# Altium footprint library LPSON_CON.PcbLib: 86 footprints (part 2 of 6)
Each footprint in its own frame and in the unit in brackets; x right, y up, seen from the top. Pads: shape width x height; smd on the part's side, far side on the other; paste and mask are expansions set on the pad; w line width, h text height; cw(c..) or ccw(c..) is an arc to the next point about the centre after c.
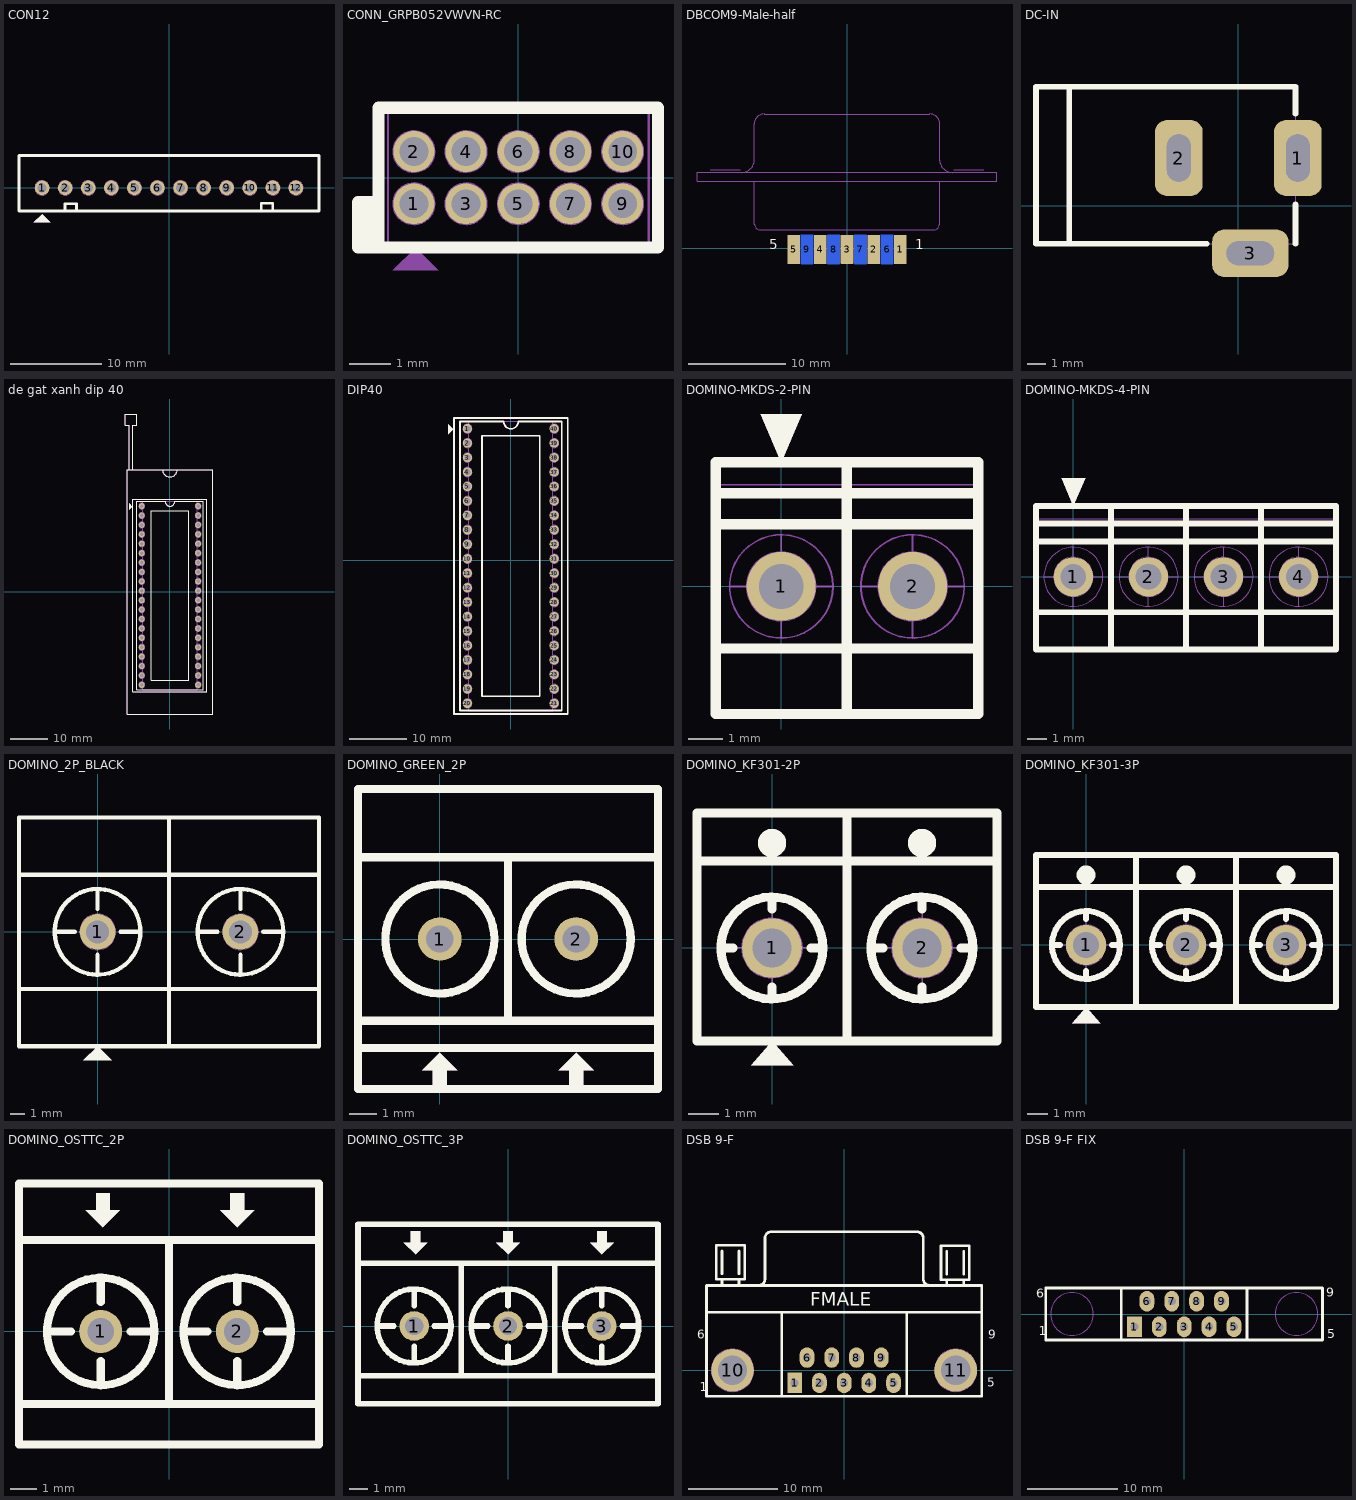
[diagram p1: the footprints below, top view; thin cyan lines are the x and y axes]

## CON12 [mm] "CON12"
height 5.08
pads (12):
  round 1.6 hole 1 mask+0.1: 1(-13.97,0) 2(-11.43,0) 3(-8.89,0) 4(-6.35,0) 5(-3.81,0) 6(-1.27,0) 7(1.27,0) 8(3.81,0) 9(6.35,0) 10(8.89,0) 11(11.43,0) 12(13.97,0)
Top Overlay:
  region: -14.872,-3.797 -13.068,-3.797 -13.957,-2.908 -13.957,-2.883
  lines w0.3: -11.455,-2.515 -11.455,-1.753 -10.185,-1.753 -10.185,-2.515 ; 10.16,-2.464 10.16,-1.702 11.43,-1.702 11.43,-2.464 ; -16.51,-2.54 -16.51,3.556 16.51,3.556 16.51,0 16.51,-2.54 -16.51,-2.54
Mechanical 1:
  circle w0.05: c-13.97,0 r0.8
  circle w0.05: c-11.43,0 r0.8
  circle w0.05: c-8.89,0 r0.8
  circle w0.05: c-6.35,0 r0.8
  circle w0.05: c-3.81,0 r0.8
  circle w0.05: c-1.27,0 r0.8
  circle w0.05: c1.27,0 r0.8
  circle w0.05: c3.81,0 r0.8
  circle w0.05: c6.35,0 r0.8
  circle w0.05: c8.89,0 r0.8
  circle w0.05: c11.43,0 r0.8
  circle w0.05: c13.97,0 r0.8
  region: -14.872,-3.797 -13.068,-3.797 -13.957,-2.908 -13.957,-2.883
  lines w0.05: -11.455,-2.515 -11.455,-1.753 -10.185,-1.753 -10.185,-2.515 ; 10.16,-2.464 10.16,-1.702 11.43,-1.702 11.43,-2.464 ; -16.51,-2.54 -16.51,3.556 16.51,3.556 16.51,0 16.51,-2.54 -16.51,-2.54
  text "1" at -14.1,-0.5 h1
  text "12" at 13.2,-0.5 h1
  text "CN?" at 0.05,0.05 h0.8
3D body "User Library-PW10_12.step": height 7, standoff -3.3, extent -16.3,-2.286 16.3,3.414

## CONN_GRPB052VWVN-RC [mm] "Connector Header Through Hole 10 position 0.050\" (1.27mm)"
pads (10):
  round 1 hole 0.7 mask+0.08: 1(-2.54,-0.635) 2(-2.54,0.635) 3(-1.27,-0.635) 4(-1.27,0.635) 5(0,-0.635) 6(0,0.635) 7(1.27,-0.635) 8(1.27,0.635) 9(2.54,-0.635) 10(2.54,0.635)
Top Overlay:
  lines w0.3: -3.65,-1.7 -3.65,-0.6 ; -3.4,-0.6 -3.9,-0.6 -3.9,-1.7 -3.4,-1.7 ; -3.4,-1.7 3.4,-1.7 3.4,1.7 -3.4,1.7 -3.4,-1.7
Mechanical 1:
  circle w0.05: c-2.54,-0.635 r0.5
  circle w0.05: c-1.27,-0.635 r0.5
  circle w0.05: c0,-0.635 r0.5
  circle w0.05: c1.27,-0.635 r0.5
  circle w0.05: c2.54,-0.635 r0.5
  circle w0.05: c2.54,0.635 r0.5
  circle w0.05: c1.27,0.635 r0.5
  circle w0.05: c0,0.635 r0.5
  circle w0.05: c-1.27,0.635 r0.5
  circle w0.05: c-2.54,0.635 r0.5
  region: -2.5,-1.7 -3.05,-2.25 -1.95,-2.25
  lines w0.05: -3.175,-1.7 3.175,-1.7 3.175,1.7 -3.175,1.7 -3.175,-1.7
  text "9" at 2.4,-0.9 h0.5
  text "10" at 2.15,0.4 h0.5
  text "2" at -2.7,0.4 h0.5
  text "1" at -2.6,-0.9 h0.5
3D body: height 4, standoff -2.3, extent -2.739,-0.834 -2.34,-0.435
3D body: height 4, standoff -2.3, extent 2.341,0.436 2.739,0.834
3D body: height 4, standoff -2.3, extent 1.071,0.436 1.469,0.834
3D body: height 4, standoff -2.3, extent -0.199,0.436 0.199,0.834
3D body: height 4, standoff -2.3, extent 2.341,-0.834 2.739,-0.436
3D body: height 4, standoff -2.3, extent 1.071,-0.834 1.469,-0.436
3D body: height 4, standoff -2.3, extent -0.199,-0.834 0.199,-0.436
3D body: height 4, standoff -2.3, extent -1.469,0.436 -1.071,0.834
3D body: height 4, standoff -2.3, extent -2.739,0.436 -2.341,0.834
3D body: height 4, standoff -2.3, extent -1.469,-0.834 -1.071,-0.436
3D body: height 1, standoff 0, extent -3.174,-1.699 3.174,1.699

## DBCOM9-Male-half [mm]
pads (9):
  rrect10% 1.3x3 smd: 1(5.48,-0.1) 2(2.74,-0.1) 3(0,-0.1) 4(-2.74,-0.1) 5(-5.48,-0.1)
  rrect10% 1.3x3 smd far side: 6(4.11,-0.1) 7(1.37,-0.1) 8(-1.37,-0.1) 9(-4.11,-0.1)
Top Overlay:
  text "1" at 7,-0.1 h1
  text "5" at -8,-0.1 h1
Bottom Overlay:
  text "9" at -8,-0.1 h1
  text "6" at 6.833,-0.1 h1
Mechanical 2:
  lines w0.05: -15.395,6.9 -15.395,7.8 ; 15.4,7.7 15.4,6.9 ; -15.4,6.9 -15.4,7.8 ; -15.4,6.9 15.4,6.9 ; -15.4,6.9 15.4,6.9 ; -15.4,7.8 15.4,7.8 ; -15.4,7.8 15.4,7.8 ; -12.5,8.1 -14.05,8.1 -12.5,8.1 ; -12.5,8.1 -10.95,8.1 -12.5,8.1 ; -9.51,9 cw(c-10.855,9.145) -11,7.8 ccw(c-10.855,9.145) -9.51,9 ; -9.51,9 -9.51,12.79 ; -9.51,9 -9.51,12.79 ; -9.51,12.79 cw(c-8.5,12.79) -8.5,13.8 ; -9.51,12.79 cw(c-8.5,12.79) -8.5,13.8 ; -8.9,1.9 cw(c-8.9,2.5) -9.5,2.5 ccw(c-8.9,2.5) -8.9,1.9 ; -8.9,1.9 8.9,1.9 ; -8.9,1.9 8.9,1.9 ; -8.5,13.8 8.5,13.8 ; -8.5,13.8 8.5,13.8 ; 8.5,13.8 cw(c8.5,12.79) 9.51,12.79 ; 8.5,13.8 cw(c8.5,12.79) 9.51,12.79 ; 8.9,1.9 ccw(c8.9,2.5) 9.5,2.5 cw(c8.9,2.5) 8.9,1.9 ; 9.51,9 ccw(c10.855,9.145) 11,7.8 cw(c10.855,9.145) 9.51,9 ; 9.51,9 9.51,12.79 ; 9.51,9 9.51,12.79 ; 12.5,8.1 14.05,8.1 12.5,8.1 ; 12.5,8.1 10.95,8.1 12.5,8.1 ; 15.4,6.9 15.4,7.8 ; -9.5,2.5 -9.5,6.9 -9.5,2.5 ; 9.5,2.5 9.5,6.9 9.5,2.5
  text "5" at -8,-0.1 h1
  text "1" at 7,-0.1 h1
3D body "43770.stp": height 5.45, standoff -7.05, extent -15.405,-0.8 15.405,13.8

## DC-IN [mil] "Jac DC input"
height 200
pads (3):
  rrect50% 100x160 hole 50 slot 100 at 90 deg: 1(125,100) 2(-125,100)
  rrect50% 160x100 hole 50 slot 100 at 0 deg: 3(25,-100)
Top Overlay:
  lines w11.81: -355,-80 -355,250 ; -66.54,-80 -425,-80 -425,250 120,250 120,192.91 ; 120,-80 120,2.5
Mechanical 1:
  lines w1.97: -355,-80 -355,250 ; -425,-80 120,-80 120,250 -425,250 -425,-80
3D body "SW3dPS-dc range - dc connector[4840.2201].STEP": height 433.67, standoff -137.2, extent -410.35,-105.12 134,269.12

## de gat xanh dip 40 [mm] "de gat xanh dip 40"
height 15
pads (40):
  round 1.6 hole 1: 1(-7.62,23.13) 2(-7.62,20.59) 3(-7.62,18.05) 4(-7.62,15.51) 5(-7.62,12.97) 6(-7.62,10.43) 7(-7.62,7.89) 8(-7.62,5.35) 9(-7.62,2.81) 10(-7.62,0.27) 11(-7.62,-2.27) 12(-7.62,-4.81) 13(-7.62,-7.35) 14(-7.62,-9.89) 15(-7.62,-12.43) 16(-7.62,-14.97) 17(-7.62,-17.51) 18(-7.62,-20.05) 19(-7.62,-22.59) 20(-7.62,-25.13) 21(7.62,-25.13) 22(7.62,-22.59) 23(7.62,-20.05) 24(7.62,-17.51) 25(7.62,-14.97) 26(7.62,-12.43) 27(7.62,-9.89) 28(7.62,-7.35) 29(7.62,-4.81) 30(7.62,-2.27) 31(7.62,0.27) 32(7.62,2.81) 33(7.62,5.35) 34(7.62,7.89) 35(7.62,10.43) 36(7.62,12.97) 37(7.62,15.51) 38(7.62,18.05) 39(7.62,20.59) 40(7.62,23.13)
Top Overlay:
  region: -10.111,23 -11,23.889 -11,22.111
  lines w0.3: -11,33 -11,45 -12,45 -12,48 -9,48 -9,45 -10,45 -10,33 ; -8.95,-26.41 -8.95,24.39 ; -8.89,-26.4 8.96,-26.4 8.96,24.4 1.321,24.4 ; -8.89,24.4 -1.245,24.4 ; -2,33 ccw(c0,33) 2,33 ; -1.243,24.41 ccw(c0.026,24.367) 1.295,24.4 ; -11.5,33 11.5,33 ; -11.5,33 -11.5,-33 11.5,-33 11.5,33 ; -11.5,33 11.5,33 ; -10,-27 -10,25 10,25 10,-27 -10,-27 ; -5.08,-23.86 -5.08,21.86 5.08,21.86 5.08,-23.86 -5.08,-23.86
Mechanical 1:
  circle w0.05: c-7.62,-22.59 r0.8
  circle w0.05: c-7.62,-25.13 r0.8
  circle w0.05: c7.62,-22.59 r0.8
  circle w0.05: c7.62,-25.13 r0.8
  circle w0.05: c-7.62,-17.51 r0.8
  circle w0.05: c-7.62,-20.05 r0.8
  circle w0.05: c7.62,-17.51 r0.8
  circle w0.05: c7.62,-20.05 r0.8
  circle w0.05: c-7.62,-12.43 r0.8
  circle w0.05: c-7.62,-14.97 r0.8
  circle w0.05: c7.62,-12.43 r0.8
  circle w0.05: c7.62,-14.97 r0.8
  circle w0.05: c-7.62,-7.35 r0.8
  circle w0.05: c-7.62,-9.89 r0.8
  circle w0.05: c7.62,-7.35 r0.8
  circle w0.05: c7.62,-9.89 r0.8
  circle w0.05: c-7.62,-2.27 r0.8
  circle w0.05: c-7.62,-4.81 r0.8
  circle w0.05: c7.62,-2.27 r0.8
  circle w0.05: c7.62,-4.81 r0.8
  circle w0.05: c-7.62,2.81 r0.8
  circle w0.05: c-7.62,0.27 r0.8
  circle w0.05: c7.62,2.81 r0.8
  circle w0.05: c7.62,0.27 r0.8
  circle w0.05: c-7.62,7.89 r0.8
  circle w0.05: c-7.62,5.35 r0.8
  circle w0.05: c7.62,7.89 r0.8
  circle w0.05: c7.62,5.35 r0.8
  circle w0.05: c-7.62,12.97 r0.8
  circle w0.05: c-7.62,10.43 r0.8
  circle w0.05: c7.62,12.97 r0.8
  circle w0.05: c7.62,10.43 r0.8
  circle w0.05: c-7.62,18.05 r0.8
  circle w0.05: c-7.62,15.51 r0.8
  circle w0.05: c7.62,18.05 r0.8
  circle w0.05: c7.62,15.51 r0.8
  circle w0.05: c7.62,20.59 r0.8
  circle w0.05: c7.62,23.13 r0.8
  circle w0.05: c-7.62,20.59 r0.8
  circle w0.05: c-7.62,23.13 r0.8
  lines w0.05: -11,33 -11,45 -12,45 -12,48 -9,48 -9,45 -10,45 -10,33 ; -2,33 ccw(c0,33) 2,33 ; -1.3,24.4 ccw(c0,24.4) 1.3,24.4 ; -11.5,-33 -11.5,33 11.5,33 11.5,-33 -11.5,-33 ; -10,-27 -10,25 10,25 10,-27 -10,-27 ; -7.366,-26.4 7.366,-26.4 7.366,24.4 -7.366,24.4 -7.366,-26.4
  text "40" at 4.8,22.5 h1
  text "21" at 5.3,-25.5 h1
  text "20" at -6.6,-25.5 h1
  text "1" at -6.4,22.5 h1
3D body "User Library-DIP40 active.step": height 13.2, standoff -3.2, extent -13.174,-31.9 11.174,47.3
3D body "DIP40.STEP": height 18.7, standoff 10.42, extent -7.743,-27.237 7.747,25.213

## DIP40 [mm] "DIP40"
height 5
pads (40):
  round 1.6 hole 1: 1(-7.62,23.13) 2(-7.62,20.59) 3(-7.62,18.05) 4(-7.62,15.51) 5(-7.62,12.97) 6(-7.62,10.43) 7(-7.62,7.89) 8(-7.62,5.35) 9(-7.62,2.81) 10(-7.62,0.27) 11(-7.62,-2.27) 12(-7.62,-4.81) 13(-7.62,-7.35) 14(-7.62,-9.89) 15(-7.62,-12.43) 16(-7.62,-14.97) 17(-7.62,-17.51) 18(-7.62,-20.05) 19(-7.62,-22.59) 20(-7.62,-25.13) 21(7.62,-25.13) 22(7.62,-22.59) 23(7.62,-20.05) 24(7.62,-17.51) 25(7.62,-14.97) 26(7.62,-12.43) 27(7.62,-9.89) 28(7.62,-7.35) 29(7.62,-4.81) 30(7.62,-2.27) 31(7.62,0.27) 32(7.62,2.81) 33(7.62,5.35) 34(7.62,7.89) 35(7.62,10.43) 36(7.62,12.97) 37(7.62,15.51) 38(7.62,18.05) 39(7.62,20.59) 40(7.62,23.13)
Top Overlay:
  region: -10.111,23 -11,23.889 -11,22.111
  lines w0.3: -8.95,-26.41 -8.95,24.39 ; -8.89,-26.4 8.96,-26.4 8.96,24.4 1.321,24.4 ; -8.89,24.4 -1.245,24.4 ; -1.243,24.41 ccw(c0.026,24.367) 1.295,24.4 ; -10,-27 10,-27 10,25 -10,25 -10,-27 ; -5.08,-23.86 5.08,-23.86 5.08,21.86 -5.08,21.86 -5.08,-23.86
Mechanical 1:
  circle w0.05: c-7.62,23.13 r0.8
  circle w0.05: c-7.62,20.59 r0.8
  circle w0.05: c7.62,23.13 r0.8
  circle w0.05: c7.62,20.59 r0.8
  circle w0.05: c7.62,15.51 r0.8
  circle w0.05: c7.62,18.05 r0.8
  circle w0.05: c-7.62,15.51 r0.8
  circle w0.05: c-7.62,18.05 r0.8
  circle w0.05: c7.62,10.43 r0.8
  circle w0.05: c7.62,12.97 r0.8
  circle w0.05: c-7.62,10.43 r0.8
  circle w0.05: c-7.62,12.97 r0.8
  circle w0.05: c7.62,5.35 r0.8
  circle w0.05: c7.62,7.89 r0.8
  circle w0.05: c-7.62,5.35 r0.8
  circle w0.05: c-7.62,7.89 r0.8
  circle w0.05: c7.62,0.27 r0.8
  circle w0.05: c7.62,2.81 r0.8
  circle w0.05: c-7.62,0.27 r0.8
  circle w0.05: c-7.62,2.81 r0.8
  circle w0.05: c7.62,-4.81 r0.8
  circle w0.05: c7.62,-2.27 r0.8
  circle w0.05: c-7.62,-4.81 r0.8
  circle w0.05: c-7.62,-2.27 r0.8
  circle w0.05: c7.62,-9.89 r0.8
  circle w0.05: c7.62,-7.35 r0.8
  circle w0.05: c-7.62,-9.89 r0.8
  circle w0.05: c-7.62,-7.35 r0.8
  circle w0.05: c7.62,-14.97 r0.8
  circle w0.05: c7.62,-12.43 r0.8
  circle w0.05: c-7.62,-14.97 r0.8
  circle w0.05: c-7.62,-12.43 r0.8
  circle w0.05: c7.62,-20.05 r0.8
  circle w0.05: c7.62,-17.51 r0.8
  circle w0.05: c-7.62,-20.05 r0.8
  circle w0.05: c-7.62,-17.51 r0.8
  circle w0.05: c7.62,-25.13 r0.8
  circle w0.05: c7.62,-22.59 r0.8
  circle w0.05: c-7.62,-25.13 r0.8
  circle w0.05: c-7.62,-22.59 r0.8
  lines w0.05: -1.3,24.4 ccw(c0,24.4) 1.3,24.4 ; -10,-27 10,-27 10,25 -10,25 -10,-27 ; -7.366,-26.4 -7.366,24.4 7.366,24.4 7.366,-26.4 -7.366,-26.4
  text "1" at -6.4,22.5 h1
  text "20" at -6.6,-25.5 h1
  text "21" at 5.3,-25.5 h1
  text "40" at 4.8,22.5 h1
3D body "DIP40.STEP": height 5.7, standoff -2.58, extent -7.743,-27.237 7.747,25.213

## DOMINO-MKDS-2-PIN [mm] "DOMINO 2 PIN, PIN TO PIN 3.81MM"
height 8.5
pads (2):
  round 2 hole 1.3 mask+0.1: 1(0,0) 2(3.81,0)
Top Overlay:
  region: 0,3.6 0.6,5 -0.6,5
  lines w0.3: -1.9,-1.8 5.715,-1.8 ; -1.9,1.8 5.715,1.8 ; -1.9,2.7 5.715,2.7 ; 1.905,-3.7 1.905,3.6 ; -1.9,-3.7 5.715,-3.7 5.715,3.6 -1.9,3.6 -1.9,-3.7
Mechanical 1:
  circle w0.05: c0,0 r1
  circle w0.05: c3.81,0 r1
  circle w0.05: c0,0 r1.5
  circle w0.05: c3.81,0 r1.5
  region: 0,3.6 0.6,5 -0.6,5
  lines w0.05: -1.9,-1.8 5.715,-1.8 ; -1.9,1.8 5.715,1.8 ; -1.9,2.95 5.715,2.95 ; -1.5,0 -1,0 ; 0,-1.5 0,-1 ; 0,1 0,1.5 ; 1,0 1.5,0 ; 1.905,-3.7 1.905,3.6 ; 2.31,0 2.81,0 ; 3.81,-1.5 3.81,-1 ; 3.81,1 3.81,1.5 ; 4.81,0 5.31,0 ; -1.9,-3.7 5.715,-3.7 5.715,3.6 -1.9,3.6 -1.9,-3.7
  text "CN?" at 1.905,-0.05 h1
  text "1" at -0.085,-0.4 h1
  text "2" at 3.7,-0.4 h1
3D body "14005.stp": height 8.5, standoff -3.5, extent -1.905,-3.7 5.715,3.6

## DOMINO-MKDS-4-PIN [mm] "DOMINO 4 PIN, PIN TO PIN 3.81MM"
height 8.5
pads (4):
  round 2 hole 1.3 mask+0.1: 1(0,0) 2(3.81,0) 3(7.62,0) 4(11.43,0)
Top Overlay:
  region: 0,3.6 0.6,5 -0.6,5
  lines w0.3: -1.9,-1.8 13.33,-1.8 ; -1.9,1.8 13.33,1.8 ; -1.9,2.7 13.33,2.7 ; 1.905,-3.7 1.905,3.6 ; 5.715,-3.7 5.715,3.6 ; 9.525,-3.7 9.525,3.6 ; -1.9,-3.7 -1.9,3.6 13.33,3.6 13.33,-3.7 -1.9,-3.7
Mechanical 1:
  circle w0.05: c11.43,0 r1.5
  circle w0.05: c7.62,0 r1.5
  circle w0.05: c3.81,0 r1.5
  circle w0.05: c0,0 r1.5
  circle w0.05: c11.43,0 r1
  circle w0.05: c7.62,0 r1
  circle w0.05: c3.81,0 r1
  circle w0.05: c0,0 r1
  region: 0,3.6 0.6,5 -0.6,5
  lines w0.05: -1.9,-1.8 13.33,-1.8 ; -1.9,1.8 13.33,1.8 ; -1.9,2.95 13.33,2.95 ; -1.5,0 -1,0 ; 0,-1.5 0,-1 ; 0,1 0,1.5 ; 1,0 1.5,0 ; 1.905,-3.7 1.905,3.6 ; 2.31,0 2.81,0 ; 3.81,-1.5 3.81,-1 ; 3.81,1 3.81,1.5 ; 4.81,0 5.31,0 ; 5.715,-3.7 5.715,3.6 ; 6.12,0 6.62,0 ; 7.62,-1.5 7.62,-1 ; 7.62,1 7.62,1.5 ; 8.62,0 9.12,0 ; 9.525,-3.7 9.525,3.6 ; 9.93,0 10.43,0 ; 11.43,-1.5 11.43,-1 ; 11.43,1 11.43,1.5 ; 12.43,0 12.93,0 ; -1.9,-3.7 -1.9,3.6 13.33,3.6 13.33,-3.7 -1.9,-3.7
  text "1" at -0.085,-0.4 h1
  text "4" at 11.015,-0.5 h1
  text "CN?" at 5.715,0 h1
3D body "14007.stp": height 8.5, standoff -3.5, extent -1.92,-3.7 13.32,3.6

## DOMINO_2P_BLACK [mm] "25A PIN TO PIN 10mm, 16mmx21mm"
height 18
pads (2):
  round 2.5 hole 1.6 mask+0.1: 1(0,0) 2(10,0)
Top Overlay:
  circle w0.3: c10,0 r3
  circle w0.3: c0,0 r3
  region: 0,-8 -1,-9 1,-9
  lines w0.3: -5.5,-4 15.5,-4 ; -5.5,4 15.5,4 ; -3,0 -1.6,0 ; 0,-3 0,-1.6 ; 0,1.6 0,3 ; 1.6,0 3,0 ; 5,-8 5,8 ; 7,0 8.4,0 ; 10,-3 10,-1.6 ; 10,1.6 10,3 ; 11.6,0 13,0 ; -5.5,-8 15.5,-8 15.5,8 -5.5,8 -5.5,-8
Mechanical 1:
  circle w0.05: c0,0 r1.25
  circle w0.05: c10,0 r1.25
  circle w0.05: c10,0 r3
  circle w0.05: c0,0 r3
  lines w0.05: -3,0 -1.6,0 ; 0,-3 0,-1.6 ; 0,1.6 0,3 ; 1.6,0 3,0 ; 5,-8 5,8 ; 7,0 8.4,0 ; 10,-3 10,-1.6 ; 10,1.6 10,3 ; 11.6,0 13,0 ; -5.5,-8 15.5,-8 15.5,8 -5.5,8 -5.5,-8
  text "1" at -0.18,-0.43 h1
  text "2" at 9.72,-0.48 h1

## DOMINO_GREEN_2P [mm] "10A PIN TO PIN 5mm 11mmx11mm"
pads (2):
  round 1.6 hole 1 mask+0.1: 1(0,0) 2(5,0)
Top Overlay:
  circle w0.3: c5,0 r2
  circle w0.3: c0,0 r2
  region: 5,-4.171 4.365,-4.806 4.746,-4.806 4.746,-5.441 5.254,-5.441 5.254,-4.806 5.635,-4.806
  region: 0,-4.171 -0.635,-4.806 -0.254,-4.806 -0.254,-5.441 0.254,-5.441 0.254,-4.806 0.635,-4.806
  lines w0.3: -3,-4 8,-4 ; -3,-3 8,-3 ; -3,3 8,3 ; 2.5,-3 2.5,3 ; -3,-5.5 -3,5.5 8,5.5 8,-5.5 -3,-5.5
Mechanical 1:
  circle w0.05: c5,0 r2
  circle w0.05: c0,0 r2
  region: 5,-4.171 4.365,-4.806 4.746,-4.806 4.746,-5.441 5.254,-5.441 5.254,-4.806 5.635,-4.806
  region: 0,-4.171 -0.635,-4.806 -0.254,-4.806 -0.254,-5.441 0.254,-5.441 0.254,-4.806 0.635,-4.806
  lines w0.05: -3,-4 8,-4 ; -3,-3 8,-3 ; -3,3 8,3 ; 2.5,-3 2.5,3 ; -3,-5.5 -3,5.5 8,5.5 8,-5.5 -3,-5.5
  text "2" at 4.6,-0.6 h1.2
  text "1" at -0.2,-0.6 h1.2
3D body "STB01.step": height 12.5, standoff -4.4, extent -3.14,-4.047 2.54,4.953
3D body "STB01.step": height 12.5, standoff -4.4, extent 1.94,-4.047 7.62,4.953

## DOMINO_KF301-2P [mm] "16A 300V PIN TO PIN 5mm, 15mmx7.6mm"
height 10
pads (2):
  round 2 hole 1.3 mask+0.1: 1(0,0) 2(5,0)
Top Overlay:
  circle w0.3: c5,0 r1.7
  circle w0.3: c0,0 r1.7
  circle w0.5: c0,3.5 r0.224
  circle w0.5: c5,3.5 r0.224
  region: 0,-3.1 -0.7,-3.9 0.7,-3.9
  lines w0.3: -2.5,2.9 7.5,2.9 ; -1.7,0 -1.3,0 ; 0,-1.7 0,-1.3 ; 0,1.3 0,1.7 ; 1.3,0 1.7,0 ; 2.5,-3.1 2.5,4.5 ; 3.3,0 3.7,0 ; 5,-1.7 5,-1.3 ; 5,1.3 5,1.7 ; 6.3,0 6.7,0 ; -2.5,-3.1 7.5,-3.1 7.5,4.5 -2.5,4.5 -2.5,-3.1
Mechanical 1:
  circle w0.05: c5,0 r1.7
  circle w0.05: c5,0 r1
  circle w0.05: c0,0 r1
  circle w0.05: c5,3.5 r0.224
  circle w0.05: c0,0 r1.7
  circle w0.05: c0,3.5 r0.224
  region: 0,-3.1 -0.7,-3.9 0.7,-3.9
  lines w0.05: -2.5,2.9 7.5,2.9 ; -1.7,0 -1,0 ; 0,-1.7 0,-1 ; 0,1 0,1.7 ; 1,0 1.7,0 ; 2.5,-3.1 2.5,4.5 ; 3.3,0 4,0 ; 5,-1.7 5,-1 ; 5,1 5,1.7 ; 6,0 6.7,0 ; -2.5,-3.1 7.5,-3.1 7.5,4.5 -2.5,4.5 -2.5,-3.1
  text "2" at 4.63,-0.54 h1.2
  text "1" at -0.19,-0.53 h1.2

## DOMINO_KF301-3P [mm] "16A 300V PIN TO PIN 5mm, 15mmx7.6mm"
height 10
pads (3):
  round 2 hole 1.3 mask+0.1: 1(0,0) 2(5,0) 3(10,0)
Top Overlay:
  circle w0.3: c10,0 r1.7
  circle w0.3: c5,0 r1.7
  circle w0.3: c0,0 r1.7
  circle w0.5: c0,3.5 r0.224
  circle w0.5: c5,3.5 r0.224
  circle w0.5: c10,3.5 r0.224
  region: 0,-3.1 -0.7,-3.9 0.7,-3.9
  lines w0.3: -2.5,2.9 12.5,2.9 ; -1.7,0 -1.3,0 ; 0,-1.7 0,-1.3 ; 0,1.3 0,1.7 ; 1.3,0 1.7,0 ; 2.5,-3.1 2.5,4.5 ; 3.3,0 3.7,0 ; 5,-1.7 5,-1.3 ; 5,1.3 5,1.7 ; 6.3,0 6.7,0 ; 7.5,-3.1 7.5,4.5 ; 8.3,0 8.7,0 ; 10,-1.7 10,-1.3 ; 10,1.3 10,1.7 ; 11.3,0 11.7,0 ; -2.5,-3.1 12.5,-3.1 12.5,4.5 -2.5,4.5 -2.5,-3.1
Mechanical 1:
  circle w0.05: c10,0 r1.7
  circle w0.05: c10,0 r1
  circle w0.05: c5,0 r1.7
  circle w0.05: c5,0 r1
  circle w0.05: c0,0 r1
  circle w0.05: c5,3.5 r0.224
  circle w0.05: c0,0 r1.7
  circle w0.05: c0,3.5 r0.224
  circle w0.05: c10,3.5 r0.224
  region: 0,-3.1 -0.7,-3.9 0.7,-3.9
  lines w0.05: -2.5,2.9 12.5,2.9 ; -1.7,0 -1,0 ; 0,-1.7 0,-1 ; 0,1 0,1.7 ; 1,0 1.7,0 ; 2.5,-3.1 2.5,4.5 ; 3.3,0 4,0 ; 5,-1.7 5,-1 ; 5,1 5,1.7 ; 6,0 6.7,0 ; 7.5,-3.1 7.5,4.5 ; 8.3,0 9,0 ; 10,-1.7 10,-1 ; 10,1 10,1.7 ; 11,0 11.7,0 ; -2.5,-3.1 12.5,-3.1 12.5,4.5 -2.5,4.5 -2.5,-3.1
  text "3" at 9.61,-0.58 h1.2
  text "2" at 4.63,-0.54 h1.2
  text "1" at -0.19,-0.53 h1.2

## DOMINO_OSTTC_2P [mm] "15A PIN TO PIN 5.08MM ED2609-ND"
pads (2):
  round 1.6 hole 1 mask+0.1: 1(-2.54,0) 2(2.54,0)
Top Overlay:
  circle w0.3: c-2.54,0 r2
  circle w0.3: c2.54,0 r2
  region: 2.54,3.871 1.905,4.506 2.286,4.506 2.286,5.141 2.794,5.141 2.794,4.506 3.175,4.506
  region: -2.46,3.871 -3.095,4.506 -2.714,4.506 -2.714,5.141 -2.206,5.141 -2.206,4.506 -1.825,4.506
  lines w0.3: -5.58,-4.2 -5.58,5.5 ; -5.5,-4.2 5.5,-4.2 ; -5.5,-2.7 5.5,-2.7 ; -5.5,3.4 5.5,3.4 ; -5.5,5.5 5.5,5.5 ; -4.54,0 -3.64,0 ; -2.54,-2 -2.54,-1.1 ; -2.54,1.1 -2.54,2 -2.5,2 ; -1.44,0 -0.54,0 ; 0,-2.7 0,3.4 ; 0.54,0 1.44,0 ; 2.54,-2 2.54,-1.1 ; 2.54,1.1 2.54,2 ; 3.64,0 4.54,0 ; 5.58,-4.2 5.58,5.5
Mechanical 2:
  circle w0.05: c2.54,0 r2
  circle w0.05: c-2.54,0 r2
  region: 2.54,3.871 1.905,4.506 2.286,4.506 2.286,5.141 2.794,5.141 2.794,4.506 3.175,4.506
  region: -2.46,3.871 -3.095,4.506 -2.714,4.506 -2.714,5.141 -2.206,5.141 -2.206,4.506 -1.825,4.506
  lines w0.05: -5.5,-2.7 5.5,-2.7 ; -5.5,3.4 5.5,3.4 ; 0,-2.7 0,3.4 ; -5.5,-4.2 -5.5,5.5 5.5,5.5 5.5,-4.2 -5.5,-4.2
  text "2" at 2.14,-0.6 h1.2
  text "1" at -2.74,-0.6 h1.2
3D body "STB01.step": height 12.5, standoff -4.4, extent -0.34,-3.753 5.34,5.247
3D body "STB01.step": height 12.5, standoff -4.4, extent -5.42,-3.753 0.26,5.247

## DOMINO_OSTTC_3P [mm] "15A PIN TO PIN 5.08MM ED2610-ND"
pads (3):
  round 1.6 hole 1 mask+0.1: 1(-5.08,0) 2(0,0) 3(5.08,0)
Top Overlay:
  circle w0.3: c-5.08,0 r2
  circle w0.3: c0,0 r2
  circle w0.3: c5.08,0 r2
  region: 0,3.871 -0.635,4.506 -0.254,4.506 -0.254,5.141 0.254,5.141 0.254,4.506 0.635,4.506
  region: -5,3.871 -5.635,4.506 -5.254,4.506 -5.254,5.141 -4.746,5.141 -4.746,4.506 -4.365,4.506
  region: 5.08,3.871 4.445,4.506 4.826,4.506 4.826,5.141 5.334,5.141 5.334,4.506 5.715,4.506
  lines w0.3: -8.12,-4.2 -8.12,5.5 ; -8.04,-4.2 8.12,-4.2 8.12,5.5 ; -8.04,-2.7 8.092,-2.7 ; -8.04,3.4 8.117,3.4 ; -8.04,5.5 8.04,5.5 ; -7.08,0 -6.18,0 ; -5.08,-2 -5.08,-1.1 ; -5.08,1.1 -5.08,2 -5.04,2 ; -3.98,0 -3.08,0 ; -2.54,-2.7 -2.54,3.4 ; -2,0 -1.1,0 ; 0,-2 0,-1.1 ; 0,1.1 0,2 ; 1.1,0 2,0 ; 2.54,-2.7 2.54,3.4 ; 3.08,0 3.98,0 ; 5.08,-2 5.08,-1.1 ; 5.08,1.1 5.08,2 ; 6.18,0 7.08,0
Mechanical 2:
  circle w0.05: c0,0 r2
  circle w0.05: c-5.08,0 r2
  circle w0.05: c5.08,0 r2
  region: 0,3.871 -0.635,4.506 -0.254,4.506 -0.254,5.141 0.254,5.141 0.254,4.506 0.635,4.506
  region: -5,3.871 -5.635,4.506 -5.254,4.506 -5.254,5.141 -4.746,5.141 -4.746,4.506 -4.365,4.506
  region: 5.08,3.871 4.445,4.506 4.826,4.506 4.826,5.141 5.334,5.141 5.334,4.506 5.715,4.506
  lines w0.05: -8.04,-2.7 8.016,-2.7 ; -8.04,3.4 8.04,3.4 ; -2.54,-2.7 -2.54,3.4 ; 2.54,-2.7 2.54,3.4 ; -8.04,-4.2 -8.04,5.5 8.04,5.5 8.04,-4.2 -8.04,-4.2
  text "2" at -0.4,-0.6 h1.2
  text "1" at -5.28,-0.6 h1.2
  text "3" at 4.68,-0.6 h1.2
3D body "STB01.step": height 12.5, standoff -4.4, extent -2.88,-3.753 2.8,5.247
3D body "STB01.step": height 12.5, standoff -4.4, extent -7.96,-3.753 -2.28,5.247
3D body "STB01.step": height 12.5, standoff -4.4, extent 2.2,-3.753 7.88,5.247

## DSB 9-F [mil] "COM FMALE - D Subminiature; 9 Position; Right Angle; Pitch 1.385 mm"
height 501.97
pads (11):
  rect 65x90 hole 35: 1(-218.11,-55.91)
  oval 65x90 hole 35: 2(-109.06,-55.91) 3(0,-55.91) 4(109.06,-55.91) 5(218.11,-55.91) 6(-163.58,55.91) 7(-54.53,55.91) 8(54.53,55.91) 9(163.58,55.91)
  round 187.4 hole 128.35: 10(-491.93,0) 11(491.93,0)
Top Overlay:
  lines w11.81: -606.3,255.91 606.3,255.91 ; -538,376.02 -538,401.02 ; -538,426.02 -538,526.02 ; -463,376.02 -463,401.02 ; -463,426.02 -463,526.02 ; -349.02,582.68 -349.02,401.57 ; -275.59,-114.17 -275.59,255.91 ; 275.59,-114.17 275.59,255.91 ; 349.02,582.68 349.02,401.57 ; 452,374.02 452,399.02 ; 452,424.02 452,524.02 ; 527,374.02 527,399.02 ; 527,424.02 527,524.02 ; -349.02,401.57 cw(c-376.38,401.57) -376.38,374.21 ccw(c-376.38,401.57) -349.02,401.57 ; -321.46,610.24 ccw(c-321.46,582.87) -348.82,582.87 cw(c-321.46,582.87) -321.46,610.24 ; -321.46,610.24 321.46,610.24 ; 321.46,610.24 cw(c321.46,582.87) 348.82,582.87 ccw(c321.46,582.87) 321.46,610.24 ; 349.02,401.57 ccw(c376.38,401.57) 376.38,374.21 cw(c376.38,401.57) 349.02,401.57 ; -606.3,-114.17 606.3,-114.17 606.3,374.02 -606.3,374.02 -606.3,-114.17 ; -563,401.02 -563,551.02 -438,551.02 -438,401.02 -563,401.02 ; 427,399.02 427,549.02 552,549.02 552,399.02 427,399.02
  text "FMALE" at -150,285 h60
  text "6" at -648.45,139.25 h39.37
  text "9" at 634.42,139.25 h39.37
  text "5" at 631.27,-71.92 h39.37
  text "1" at -636.72,-92.18 h39.37
Mechanical 1:
  circle w1.97: c491.93,0 r93.7
  circle w1.97: c-491.93,0 r93.7
  lines w1.97: -606.3,255.91 606.3,255.91 ; -538,376.02 -538,401.02 ; -538,426.02 -538,526.02 ; -463,376.02 -463,401.02 ; -463,426.02 -463,526.02 ; -349.02,401.57 -349.02,582.68 ; -321.46,610.24 321.46,610.24 ; -275.59,-114.17 -275.59,255.91 ; 275.59,-114.17 275.59,255.91 ; 349.02,401.57 349.02,582.68 ; 452,374.02 452,399.02 ; 452,424.02 452,524.02 ; 527,374.02 527,399.02 ; 527,424.02 527,524.02 ; -606.3,-114.17 606.3,-114.17 606.3,374.02 -606.3,374.02 -606.3,-114.17 ; -563,401.02 -563,551.02 -438,551.02 -438,401.02 -563,401.02 ; 427,399.02 552,399.02 552,549.02 427,549.02 427,399.02
  text "FMALE" at -150,285 h60
  text "6" at -173.23,39.37 h39.37
  text "9" at 149.61,39.37 h39.37
  text "5" at 204.72,-74.8 h39.37
  text "1" at -224.41,-82.68 h39.37
  text "CN?" at 0,0 h39.37
3D body "SW3dPS-9-PIN_DSUB-1.STEP": height 494.6, standoff -124.4, extent -604.5,-138 608.5,613

## DSB 9-F FIX [mil] "COM FMALE - D Subminiature; 9 Position; Right Angle; Pitch 1.385 mm"
height 501.97
pads (9):
  rect 65x90 hole 35: 1(-218.11,-55.91)
  oval 65x90 hole 35: 2(-109.06,-55.91) 3(0,-55.91) 4(109.06,-55.91) 5(218.11,-55.91) 6(-163.58,55.91) 7(-54.53,55.91) 8(54.53,55.91) 9(163.58,55.91)
Top Overlay:
  lines w11.81: -275.59,-114.17 -275.59,114.17 ; 275.59,-114.17 275.59,114.17 ; 602.36,114.17 -606.3,114.17 ; 606.3,114.17 606.3,-114.17 -606.3,-114.17 -606.3,114.17 ; -606.3,114.17 -606.3,114.17
  text "6" at -649.61,70.87 h39.37
  text "9" at 622.05,74.8 h39.37
  text "5" at 625.98,-106.3 h39.37
  text "1" at -636.72,-92.18 h39.37
Mechanical 1:
  circle w1.97: c491.93,0 r93.7
  circle w1.97: c-491.93,0 r93.7
  lines w1.97: -275.59,-114.17 -275.59,114.17 ; 275.59,-114.17 275.59,114.17 ; -606.3,-114.17 606.3,-114.17 606.3,114.17 -606.3,114.17 -606.3,-114.17
  text "6" at -173.23,39.37 h39.37
  text "9" at 149.61,39.37 h39.37
  text "5" at 204.72,-74.8 h39.37
  text "1" at -224.41,-82.68 h39.37
  text "CN?" at 0,0 h39.37
3D body "SW3dPS-9-PIN_DSUB-1.STEP": height 494.6, standoff -124.4, extent -604.5,-138 608.5,613